# Altium integrated library Motorola Microcontroller 8-Bit.IntLib: 909 symbols (part 7 of 31)
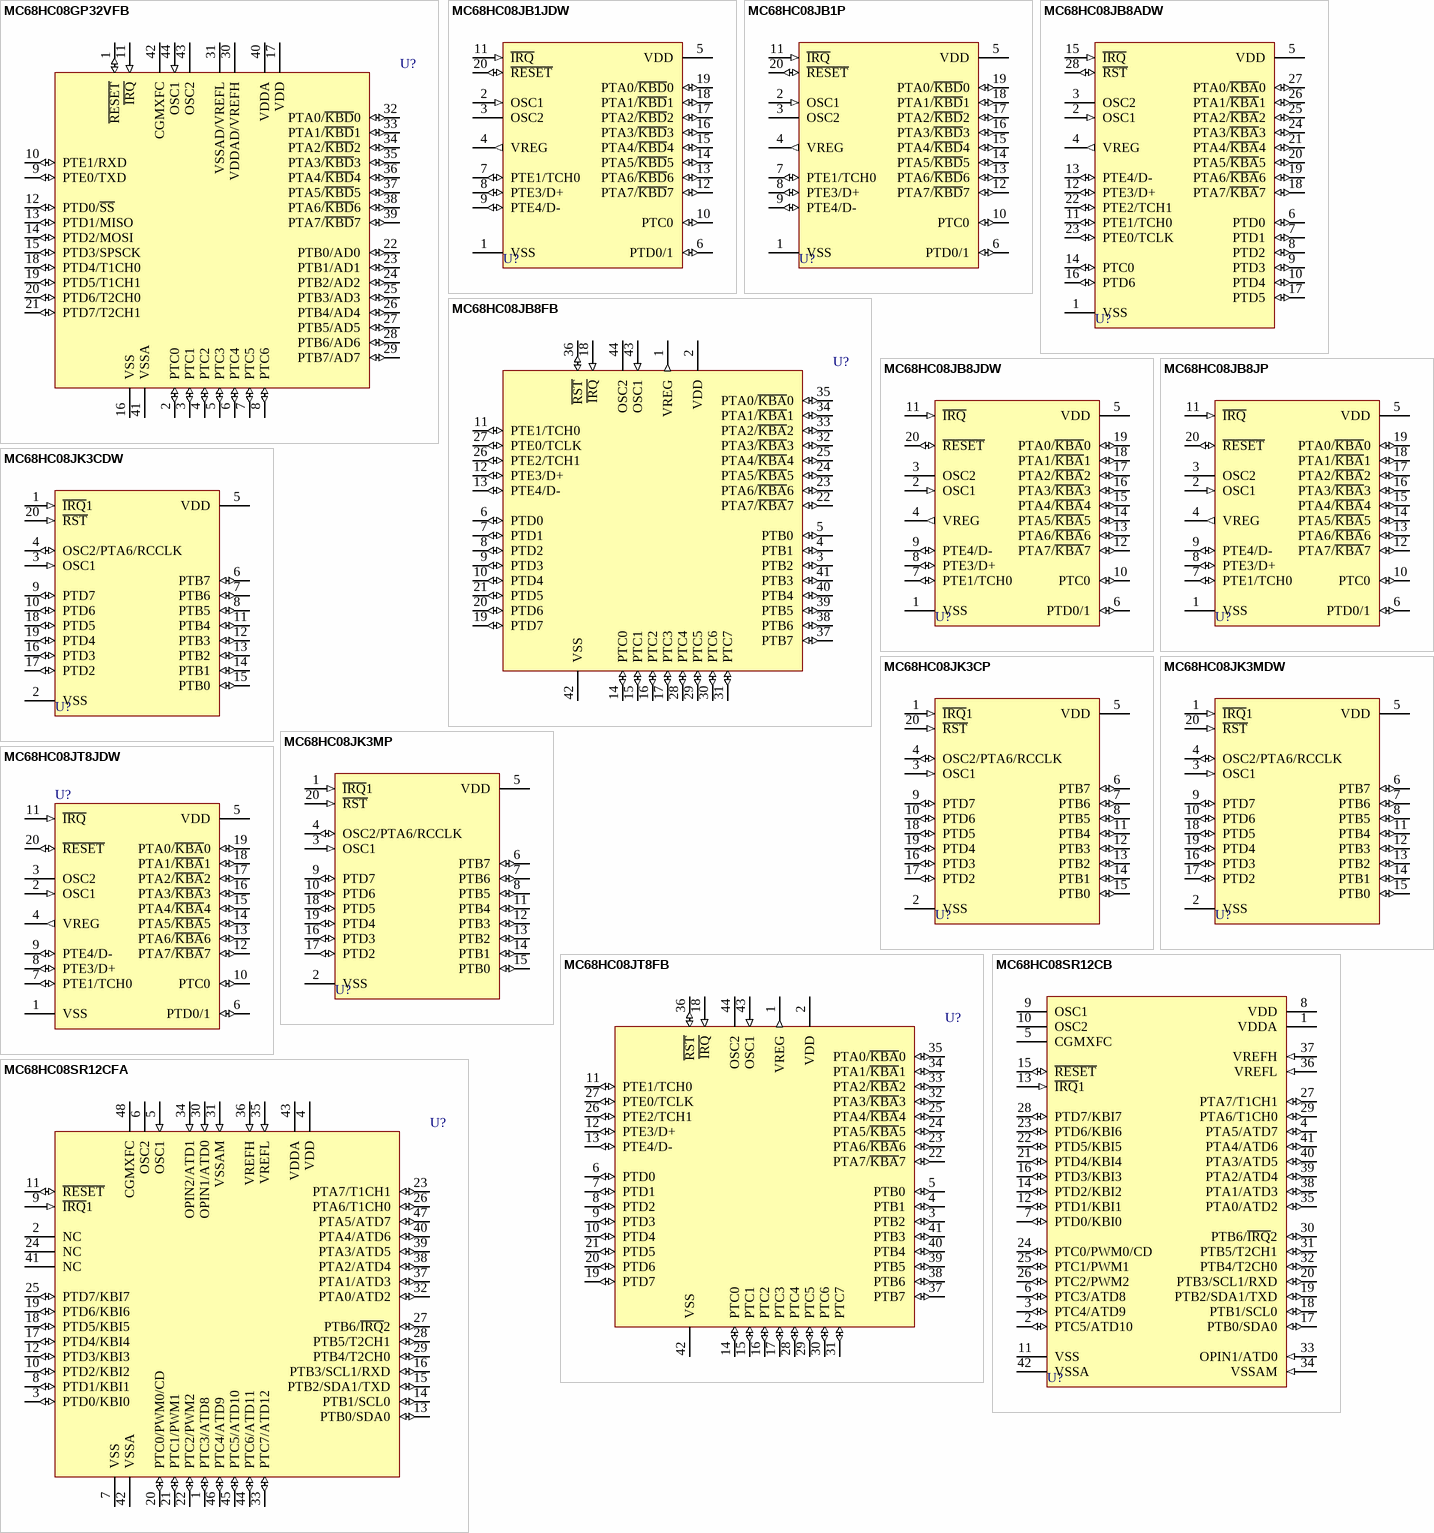
[diagram p119: symbols MC68HC08GP32VFB to MC68HC08SR12CFA]

## MC68HC08GP32VFB
designator U?
8-Bit Microcontroller; Note: Any unused inputs and I/O ports should be tied to an appropriate logic level (either VDD or VSS ). Although the I/O ports of the MC68HC908GP32 do not require termination, termination is recommended to reduce the possibility of static damage.; Published: 17-Jan-2003; LatestRevisionDate: 13-Apr-2006; LatestRevisionNote: IPC-7351 Footprint Added.; DatasheetVersion: Rev 6, 8/2002; PackageVersion: rev5, Apr-2002; PackageReference: 824A-01; Publisher: Altium Limited; PackageDescription: 44-Pin Quad Flat Pack 0.8 mm Pitch; Code_JEDEC: MS-022-AB; Code_IPC: QFP80P1320X1320-44; ComponentLink1Description: Manufacturer Link; ComponentLink1URL: http://www.freescale.com/; ComponentLink2Description: Datasheet; ComponentLink2URL: http://www.freescale.com/files/microcontrollers/doc/data_sheet/MC68HC908GP32.pdf
footprint 824A-01_N (QFP, 44-Leads, Body 10x10mm, Pitch 0.8mm, IPC Medium Density)
footprint 824A-01_L (QFP, 44-Leads, Body 10x10mm, Pitch 0.8mm, IPC High Density)
footprint 824A-01_M (QFP, 44-Leads, Body 10x10mm, Pitch 0.8mm, IPC Low Density)
3D model MC68HC08-824A-01 (44-Pin Quad Flat Pack 0.8 mm Pitch)
pins: 1 ~{RESET} (io), 2 PTC0 (io), 3 PTC1 (io), 4 PTC2 (io), 5 PTC3 (io), 6 PTC4 (io), 7 PTC5 (io), 8 PTC6 (io), 9 PTE0/TXD (io), 10 PTE1/RXD (io), 11 ~{IRQ} (in), 12 PTD0/~{SS} (io), 13 PTD1/MISO (io), 14 PTD2/MOSI (io), 15 PTD3/SPSCK (io), 16 VSS (power), 17 VDD (power), 18 PTD4/T1CH0 (io), 19 PTD5/T1CH1 (io), 20 PTD6/T2CH0 (io), 21 PTD7/T2CH1 (io), 22 PTB0/AD0 (io), 23 PTB1/AD1 (io), 24 PTB2/AD2 (io), 25 PTB3/AD3 (io), 26 PTB4/AD4 (io), 27 PTB5/AD5 (io), 28 PTB6/AD6 (io), 29 PTB7/AD7 (io), 30 VDDAD/VREFH (power), 31 VSSAD/VREFL (power), 32 PTA0/~{KBD}0 (io), 33 PTA1/~{KBD}1 (io), 34 PTA2/~{KBD}2 (io), 35 PTA3/~{KBD}3 (io), 36 PTA4/~{KBD}4 (io), 37 PTA5/~{KBD}5 (io), 38 PTA6/~{KBD}6 (io), 39 PTA7/~{KBD}7 (io), 40 VDDA (power), 41 VSSA (power), 42 CGMXFC, 43 OSC2, 44 OSC1 (in)

## MC68HC08JB1JDW
designator U?
8-Bit Microcontroller; Note: Any unused inputs and I/O ports should be tied to an appropriate logic level (either VDD or VSS ). Although the I/O ports of the MC68HC908JB16 do not require termination, termination is recommended to reduce the possibility of static damage.; Published: 17-Jan-2003; LatestRevisionDate: 13-Apr-2006; LatestRevisionNote: IPC-7351 Footprint Added.; DatasheetVersion: Rev 2, 3/2002; PackageVersion: rev4.0, 2001; PackageReference: 751D-05; Publisher: Altium Limited; PackageDescription: 20-Pin Plastic Small Outline Integrated Circuit 1.27 mm Pitch; ComponentLink1Description: Manufacturer Link; ComponentLink1URL: http://www.freescale.com/; ComponentLink2Description: Datasheet; ComponentLink2URL: http://www.freescale.com/files/microcontrollers/doc/data_sheet/MC68HC08JB1.pdf
footprint 751D-05_N (SOIC, 20-Leads, Body 12.8x7.5mm, Pitch 1.27mm, IPC Medium Density)
footprint 751D-05_L (SOIC, 20-Leads, Body 12.8x7.5mm, Pitch 1.27mm, IPC High Density)
footprint 751D-05_M (SOIC, 20-Leads, Body 12.8x7.5mm, Pitch 1.27mm, IPC Low Density)
3D model 751D-05 (20-Pin Plastic Small Outline Integrated Circuit 1.27 mm Pitch)
pins: 1 VSS (power), 2 OSC1 (in), 3 OSC2, 4 VREG (out), 5 VDD (power), 6 PTD0/1 (io), 7 PTE1/TCH0 (io), 8 PTE3/D+ (io), 9 PTE4/D- (io), 10 PTC0 (io), 11 ~{IRQ} (in), 12 PTA7/~{KBD}7 (io), 13 PTA6/~{KBD}6 (io), 14 PTA5/~{KBD}5 (io), 15 PTA4/~{KBD}4 (io), 16 PTA3/~{KBD}3 (io), 17 PTA2/~{KBD}2 (io), 18 PTA1/~{KBD}1 (io), 19 PTA0/~{KBD}0 (io), 20 ~{RESET} (io)

## MC68HC08JB1P
designator U?
8-Bit Microcontroller; Note: Any unused inputs and I/O ports should be tied to an appropriate logic level (either VDD or VSS ). Although the I/O ports of the MC68HC908JB16 do not require termination, termination is recommended to reduce the possibility of static damage.; Published: 17-Jan-2003; LatestRevisionDate: 06-Jun-2005; LatestRevisionNote: Stylized 3D Model Added.; DatasheetVersion: Rev 2, 3/2002; PackageReference: 738-03; Publisher: Altium Limited; PackageDescription: DIP; 20 Leads; Row Spacing 7.62 mm; Pitch 2.54 mm; Code_JEDEC: MS-001-AD; ComponentLink1Description: Manufacturer Link; ComponentLink1URL: http://www.freescale.com/; ComponentLink2Description: Datasheet; ComponentLink2URL: http://www.freescale.com/files/microcontrollers/doc/data_sheet/MC68HC08JB1.pdf
footprint 738-03 (DIP; 20 Leads; Row Spacing 7.62 mm; Pitch 2.54 mm)
3D model 738-03 (DIP; 20 Leads; Row Spacing 7.62 mm; Pitch 2.54 mm)
pins: 1 VSS (power), 2 OSC1 (in), 3 OSC2, 4 VREG (out), 5 VDD (power), 6 PTD0/1 (io), 7 PTE1/TCH0 (io), 8 PTE3/D+ (io), 9 PTE4/D- (io), 10 PTC0 (io), 11 ~{IRQ} (in), 12 PTA7/~{KBD}7 (io), 13 PTA6/~{KBD}6 (io), 14 PTA5/~{KBD}5 (io), 15 PTA4/~{KBD}4 (io), 16 PTA3/~{KBD}3 (io), 17 PTA2/~{KBD}2 (io), 18 PTA1/~{KBD}1 (io), 19 PTA0/~{KBD}0 (io), 20 ~{RESET} (io)

## MC68HC08JB8ADW
designator U?
8-Bit Microcontroller; Published: 17-Jan-2003; LatestRevisionDate: 13-Apr-2006; LatestRevisionNote: IPC-7351 Footprint Added.; DatasheetVersion: Rev 2, 2/2002; PackageReference: 751F-03; Publisher: Altium Limited; PackageDescription: 28-Pin Small Outline Integrated Circuit 1.27 mm Pitch; ComponentLink1Description: Manufacturer Link; ComponentLink1URL: http://www.freescale.com/; ComponentLink2Description: Datasheet; ComponentLink2URL: http://www.freescale.com/files/microcontrollers/doc/data_sheet/MC68HC908JB8.pdf
footprint 751F-03_N (SOIC, 28-Leads, Body 17.9x7.5mm, Pitch 1.27mm, IPC Medium Density)
footprint 751F-03_L (SOIC, 28-Leads, Body 17.9x7.5mm, Pitch 1.27mm, IPC High Density)
footprint 751F-03_M (SOIC, 28-Leads, Body 17.9x7.5mm, Pitch 1.27mm, IPC Low Density)
3D model 751F-03 (28-Pin Small Outline Integrated Circuit 1.27 mm Pitch)
pins: 1 VSS (power), 2 OSC1 (in), 3 OSC2, 4 VREG (out), 5 VDD (power), 6 PTD0 (io), 7 PTD1 (io), 8 PTD2 (io), 9 PTD3 (io), 10 PTD4 (io), 11 PTE1/TCH0 (io), 12 PTE3/D+ (io), 13 PTE4/D- (io), 14 PTC0 (io), 15 ~{IRQ} (in), 16 PTD6 (io), 17 PTD5 (io), 18 PTA7/~{KBA}7 (io), 19 PTA6/~{KBA}6 (io), 20 PTA5/~{KBA}5 (io), 21 PTA4/~{KBA}4 (io), 22 PTE2/TCH1 (io), 23 PTE0/TCLK (io), 24 PTA3/~{KBA}3 (io), 25 PTA2/~{KBA}2 (io), 26 PTA1/~{KBA}1 (io), 27 PTA0/~{KBA}0 (io), 28 ~{RST} (io)

## MC68HC08JB8FB
designator U?
8-Bit Microcontroller; Published: 17-Jan-2003; LatestRevisionDate: 13-Apr-2006; LatestRevisionNote: IPC-7351 Footprint Added.; DatasheetVersion: Rev 2, 2/2002; PackageVersion: rev5, Apr-2002; PackageReference: 824A-01; Publisher: Altium Limited; PackageDescription: 44-Pin Quad Flat Pack 0.8 mm Pitch; Code_JEDEC: MS-022-AB; Code_IPC: QFP80P1320X1320-44; ComponentLink1Description: Manufacturer Link; ComponentLink1URL: http://www.freescale.com/; ComponentLink2Description: Datasheet; ComponentLink2URL: http://www.freescale.com/files/microcontrollers/doc/data_sheet/MC68HC908JB8.pdf
footprint 824A-01_N (QFP, 44-Leads, Body 10x10mm, Pitch 0.8mm, IPC Medium Density)
footprint 824A-01_L (QFP, 44-Leads, Body 10x10mm, Pitch 0.8mm, IPC High Density)
footprint 824A-01_M (QFP, 44-Leads, Body 10x10mm, Pitch 0.8mm, IPC Low Density)
3D model MC68HC08-824A-01 (44-Pin Quad Flat Pack 0.8 mm Pitch)
pins: 1 VREG (out), 2 VDD (power), 3 PTB2 (io), 4 PTB1 (io), 5 PTB0 (io), 6 PTD0 (io), 7 PTD1 (io), 8 PTD2 (io), 9 PTD3 (io), 10 PTD4 (io), 11 PTE1/TCH0 (io), 12 PTE3/D+ (io), 13 PTE4/D- (io), 14 PTC0 (io), 15 PTC1 (io), 16 PTC2 (io), 17 PTC3 (io), 18 ~{IRQ} (in), 19 PTD7 (io), 20 PTD6 (io), 21 PTD5 (io), 22 PTA7/~{KBA}7 (io), 23 PTA6/~{KBA}6 (io), 24 PTA5/~{KBA}5 (io), 25 PTA4/~{KBA}4 (io), 26 PTE2/TCH1 (io), 27 PTE0/TCLK (io), 28 PTC4 (io), 29 PTC5 (io), 30 PTC6 (io), 31 PTC7 (io), 32 PTA3/~{KBA}3 (io), 33 PTA2/~{KBA}2 (io), 34 PTA1/~{KBA}1 (io), 35 PTA0/~{KBA}0 (io), 36 ~{RST} (io), 37 PTB7 (io), 38 PTB6 (io), 39 PTB5 (io), 40 PTB4 (io), 41 PTB3 (io), 42 VSS (power), 43 OSC1 (in), 44 OSC2

## MC68HC08JB8JDW
designator U?
8-Bit Microcontroller; Published: 17-Jan-2003; LatestRevisionDate: 13-Apr-2006; LatestRevisionNote: IPC-7351 Footprint Added.; DatasheetVersion: Rev 2, 2/2002; PackageVersion: rev4.0, 2001; PackageReference: 751D-05; Publisher: Altium Limited; PackageDescription: 20-Pin Plastic Small Outline Integrated Circuit 1.27 mm Pitch; ComponentLink1Description: Manufacturer Link; ComponentLink1URL: http://www.freescale.com/; ComponentLink2Description: Datasheet; ComponentLink2URL: http://www.freescale.com/files/microcontrollers/doc/data_sheet/MC68HC908JB8.pdf
footprint 751D-05_N (SOIC, 20-Leads, Body 12.8x7.5mm, Pitch 1.27mm, IPC Medium Density)
footprint 751D-05_L (SOIC, 20-Leads, Body 12.8x7.5mm, Pitch 1.27mm, IPC High Density)
footprint 751D-05_M (SOIC, 20-Leads, Body 12.8x7.5mm, Pitch 1.27mm, IPC Low Density)
3D model 751D-05 (20-Pin Plastic Small Outline Integrated Circuit 1.27 mm Pitch)
pins: 1 VSS (power), 2 OSC1 (in), 3 OSC2, 4 VREG (out), 5 VDD (power), 6 PTD0/1 (io), 7 PTE1/TCH0 (io), 8 PTE3/D+ (io), 9 PTE4/D- (io), 10 PTC0 (io), 11 ~{IRQ} (in), 12 PTA7/~{KBA}7 (io), 13 PTA6/~{KBA}6 (io), 14 PTA5/~{KBA}5 (io), 15 PTA4/~{KBA}4 (io), 16 PTA3/~{KBA}3 (io), 17 PTA2/~{KBA}2 (io), 18 PTA1/~{KBA}1 (io), 19 PTA0/~{KBA}0 (io), 20 ~{RESET} (io)

## MC68HC08JB8JP
designator U?
8-Bit Microcontroller; Published: 17-Jan-2003; LatestRevisionDate: 06-Jun-2005; LatestRevisionNote: Stylized 3D Model Added.; DatasheetVersion: Rev 2, 2/2002; PackageReference: 738-03; Publisher: Altium Limited; PackageDescription: DIP; 20 Leads; Row Spacing 7.62 mm; Pitch 2.54 mm; Code_JEDEC: MS-001-AD; ComponentLink1Description: Manufacturer Link; ComponentLink1URL: http://www.freescale.com/; ComponentLink2Description: Datasheet; ComponentLink2URL: http://www.freescale.com/files/microcontrollers/doc/data_sheet/MC68HC908JB8.pdf
footprint 738-03 (DIP; 20 Leads; Row Spacing 7.62 mm; Pitch 2.54 mm)
3D model 738-03 (DIP; 20 Leads; Row Spacing 7.62 mm; Pitch 2.54 mm)
pins: 1 VSS (power), 2 OSC1 (in), 3 OSC2, 4 VREG (out), 5 VDD (power), 6 PTD0/1 (io), 7 PTE1/TCH0 (io), 8 PTE3/D+ (io), 9 PTE4/D- (io), 10 PTC0 (io), 11 ~{IRQ} (in), 12 PTA7/~{KBA}7 (io), 13 PTA6/~{KBA}6 (io), 14 PTA5/~{KBA}5 (io), 15 PTA4/~{KBA}4 (io), 16 PTA3/~{KBA}3 (io), 17 PTA2/~{KBA}2 (io), 18 PTA1/~{KBA}1 (io), 19 PTA0/~{KBA}0 (io), 20 ~{RESET} (io)

## MC68HC08JK3CDW
designator U?
8-Bit Microcontroller; Note: Connect any unused I/O pins to an appropriate logic level (either VDD or VSS ). Although the I/O ports do not require termination for proper operation, termination reduces excess current consumption and the possibility of electrostatic damage.; Published: 17-Jan-2003; LatestRevisionDate: 13-Apr-2006; LatestRevisionNote: IPC-7351 Footprint Added.; DatasheetVersion: Rev 4, 2000; PackageVersion: rev4.0, 2001; PackageReference: 751D-05; Publisher: Altium Limited; PackageDescription: 20-Pin Plastic Small Outline Integrated Circuit 1.27 mm Pitch; ComponentLink1Description: Manufacturer Link; ComponentLink1URL: http://www.freescale.com/
footprint 751D-05_N (SOIC, 20-Leads, Body 12.8x7.5mm, Pitch 1.27mm, IPC Medium Density)
footprint 751D-05_L (SOIC, 20-Leads, Body 12.8x7.5mm, Pitch 1.27mm, IPC High Density)
footprint 751D-05_M (SOIC, 20-Leads, Body 12.8x7.5mm, Pitch 1.27mm, IPC Low Density)
3D model 751D-05 (20-Pin Plastic Small Outline Integrated Circuit 1.27 mm Pitch)
pins: 1 ~{IRQ}1 (in), 2 VSS (power), 3 OSC1 (in), 4 OSC2/PTA6/RCCLK (io), 5 VDD (power), 6 PTB7 (io), 7 PTB6 (io), 8 PTB5 (io), 9 PTD7 (io), 10 PTD6 (io), 11 PTB4 (io), 12 PTB3 (io), 13 PTB2 (io), 14 PTB1 (io), 15 PTB0 (io), 16 PTD3 (io), 17 PTD2 (io), 18 PTD5 (io), 19 PTD4 (io), 20 ~{RST} (in)

## MC68HC08JK3CP
designator U?
8-Bit Microcontroller; Note: Connect any unused I/O pins to an appropriate logic level (either VDD or VSS ). Although the I/O ports do not require termination for proper operation, termination reduces excess current consumption and the possibility of electrostatic damage.; Published: 17-Jan-2003; LatestRevisionDate: 06-Jun-2005; LatestRevisionNote: Stylized 3D Model Added.; DatasheetVersion: Rev 4, 2000; PackageReference: 738-03; Publisher: Altium Limited; PackageDescription: DIP; 20 Leads; Row Spacing 7.62 mm; Pitch 2.54 mm; Code_JEDEC: MS-001-AD; ComponentLink1Description: Manufacturer Link; ComponentLink1URL: http://www.freescale.com/
footprint 738-03 (DIP; 20 Leads; Row Spacing 7.62 mm; Pitch 2.54 mm)
3D model 738-03 (DIP; 20 Leads; Row Spacing 7.62 mm; Pitch 2.54 mm)
pins: 1 ~{IRQ}1 (in), 2 VSS (power), 3 OSC1 (in), 4 OSC2/PTA6/RCCLK (io), 5 VDD (power), 6 PTB7 (io), 7 PTB6 (io), 8 PTB5 (io), 9 PTD7 (io), 10 PTD6 (io), 11 PTB4 (io), 12 PTB3 (io), 13 PTB2 (io), 14 PTB1 (io), 15 PTB0 (io), 16 PTD3 (io), 17 PTD2 (io), 18 PTD5 (io), 19 PTD4 (io), 20 ~{RST} (in)

## MC68HC08JK3MDW
designator U?
8-Bit Microcontroller; Note: Connect any unused I/O pins to an appropriate logic level (either VDD or VSS ). Although the I/O ports do not require termination for proper operation, termination reduces excess current consumption and the possibility of electrostatic damage.; Published: 17-Jan-2003; LatestRevisionDate: 13-Apr-2006; LatestRevisionNote: IPC-7351 Footprint Added.; DatasheetVersion: Rev 4, 2000; PackageVersion: rev4.0, 2001; PackageReference: 751D-05; Publisher: Altium Limited; PackageDescription: 20-Pin Plastic Small Outline Integrated Circuit 1.27 mm Pitch; ComponentLink1Description: Manufacturer Link; ComponentLink1URL: http://www.freescale.com/
footprint 751D-05_N (SOIC, 20-Leads, Body 12.8x7.5mm, Pitch 1.27mm, IPC Medium Density)
footprint 751D-05_L (SOIC, 20-Leads, Body 12.8x7.5mm, Pitch 1.27mm, IPC High Density)
footprint 751D-05_M (SOIC, 20-Leads, Body 12.8x7.5mm, Pitch 1.27mm, IPC Low Density)
3D model 751D-05 (20-Pin Plastic Small Outline Integrated Circuit 1.27 mm Pitch)
pins: 1 ~{IRQ}1 (in), 2 VSS (power), 3 OSC1 (in), 4 OSC2/PTA6/RCCLK (io), 5 VDD (power), 6 PTB7 (io), 7 PTB6 (io), 8 PTB5 (io), 9 PTD7 (io), 10 PTD6 (io), 11 PTB4 (io), 12 PTB3 (io), 13 PTB2 (io), 14 PTB1 (io), 15 PTB0 (io), 16 PTD3 (io), 17 PTD2 (io), 18 PTD5 (io), 19 PTD4 (io), 20 ~{RST} (in)

## MC68HC08JK3MP
designator U?
8-Bit Microcontroller; Note: Connect any unused I/O pins to an appropriate logic level (either VDD or VSS ). Although the I/O ports do not require termination for proper operation, termination reduces excess current consumption and the possibility of electrostatic damage.; Published: 17-Jan-2003; LatestRevisionDate: 06-Jun-2005; LatestRevisionNote: Stylized 3D Model Added.; DatasheetVersion: Rev 4, 2000; PackageReference: 738-03; Publisher: Altium Limited; PackageDescription: DIP; 20 Leads; Row Spacing 7.62 mm; Pitch 2.54 mm; Code_JEDEC: MS-001-AD; ComponentLink1Description: Manufacturer Link; ComponentLink1URL: http://www.freescale.com/
footprint 738-03 (DIP; 20 Leads; Row Spacing 7.62 mm; Pitch 2.54 mm)
3D model 738-03 (DIP; 20 Leads; Row Spacing 7.62 mm; Pitch 2.54 mm)
pins: 1 ~{IRQ}1 (in), 2 VSS (power), 3 OSC1 (in), 4 OSC2/PTA6/RCCLK (io), 5 VDD (power), 6 PTB7 (io), 7 PTB6 (io), 8 PTB5 (io), 9 PTD7 (io), 10 PTD6 (io), 11 PTB4 (io), 12 PTB3 (io), 13 PTB2 (io), 14 PTB1 (io), 15 PTB0 (io), 16 PTD3 (io), 17 PTD2 (io), 18 PTD5 (io), 19 PTD4 (io), 20 ~{RST} (in)

## MC68HC08JT8FB
designator U?
8-Bit Microcontroller; Published: 17-Jan-2003; LatestRevisionDate: 13-Apr-2006; LatestRevisionNote: IPC-7351 Footprint Added.; DatasheetVersion: Rev 2, 2/2002; PackageVersion: rev5, Apr-2002; PackageReference: 824A-01; Publisher: Altium Limited; PackageDescription: 44-Pin Quad Flat Pack 0.8 mm Pitch; Code_JEDEC: MS-022-AB; Code_IPC: QFP80P1320X1320-44; ComponentLink1Description: Manufacturer Link; ComponentLink1URL: http://www.freescale.com/; ComponentLink2Description: Datasheet; ComponentLink2URL: http://www.freescale.com/files/microcontrollers/doc/data_sheet/MC68HC908JB8.pdf
footprint 824A-01_N (QFP, 44-Leads, Body 10x10mm, Pitch 0.8mm, IPC Medium Density)
footprint 824A-01_L (QFP, 44-Leads, Body 10x10mm, Pitch 0.8mm, IPC High Density)
footprint 824A-01_M (QFP, 44-Leads, Body 10x10mm, Pitch 0.8mm, IPC Low Density)
3D model MC68HC08-824A-01 (44-Pin Quad Flat Pack 0.8 mm Pitch)
pins: 1 VREG (out), 2 VDD (power), 3 PTB2 (io), 4 PTB1 (io), 5 PTB0 (io), 6 PTD0 (io), 7 PTD1 (io), 8 PTD2 (io), 9 PTD3 (io), 10 PTD4 (io), 11 PTE1/TCH0 (io), 12 PTE3/D+ (io), 13 PTE4/D- (io), 14 PTC0 (io), 15 PTC1 (io), 16 PTC2 (io), 17 PTC3 (io), 18 ~{IRQ} (in), 19 PTD7 (io), 20 PTD6 (io), 21 PTD5 (io), 22 PTA7/~{KBA}7 (io), 23 PTA6/~{KBA}6 (io), 24 PTA5/~{KBA}5 (io), 25 PTA4/~{KBA}4 (io), 26 PTE2/TCH1 (io), 27 PTE0/TCLK (io), 28 PTC4 (io), 29 PTC5 (io), 30 PTC6 (io), 31 PTC7 (io), 32 PTA3/~{KBA}3 (io), 33 PTA2/~{KBA}2 (io), 34 PTA1/~{KBA}1 (io), 35 PTA0/~{KBA}0 (io), 36 ~{RST} (io), 37 PTB7 (io), 38 PTB6 (io), 39 PTB5 (io), 40 PTB4 (io), 41 PTB3 (io), 42 VSS (power), 43 OSC1 (in), 44 OSC2

## MC68HC08JT8JDW
designator U?
8-Bit Microcontroller; Published: 17-Jan-2003; LatestRevisionDate: 13-Apr-2006; LatestRevisionNote: IPC-7351 Footprint Added.; DatasheetVersion: Rev 2, 2/2002; PackageVersion: rev4.0, 2001; PackageReference: 751D-05; Publisher: Altium Limited; PackageDescription: 20-Pin Plastic Small Outline Integrated Circuit 1.27 mm Pitch; ComponentLink1Description: Manufacturer Link; ComponentLink1URL: http://www.freescale.com/; ComponentLink2Description: Datasheet; ComponentLink2URL: http://www.freescale.com/files/microcontrollers/doc/data_sheet/MC68HC908JB8.pdf
footprint 751D-05_N (SOIC, 20-Leads, Body 12.8x7.5mm, Pitch 1.27mm, IPC Medium Density)
footprint 751D-05_L (SOIC, 20-Leads, Body 12.8x7.5mm, Pitch 1.27mm, IPC High Density)
footprint 751D-05_M (SOIC, 20-Leads, Body 12.8x7.5mm, Pitch 1.27mm, IPC Low Density)
3D model 751D-05 (20-Pin Plastic Small Outline Integrated Circuit 1.27 mm Pitch)
pins: 1 VSS (power), 2 OSC1 (in), 3 OSC2, 4 VREG (out), 5 VDD (power), 6 PTD0/1 (io), 7 PTE1/TCH0 (io), 8 PTE3/D+ (io), 9 PTE4/D- (io), 10 PTC0 (io), 11 ~{IRQ} (in), 12 PTA7/~{KBA}7 (io), 13 PTA6/~{KBA}6 (io), 14 PTA5/~{KBA}5 (io), 15 PTA4/~{KBA}4 (io), 16 PTA3/~{KBA}3 (io), 17 PTA2/~{KBA}2 (io), 18 PTA1/~{KBA}1 (io), 19 PTA0/~{KBA}0 (io), 20 ~{RESET} (io)

## MC68HC08SR12CB
designator U?
8-Bit Microcontroller; Published: 17-Jan-2003; LatestRevisionDate: 06-Jun-2005; LatestRevisionNote: Stylized 3D Model Added.; DatasheetVersion: Rev 4, 2/2002; PackageVersion: rev5, Apr-2002; PackageReference: 858-01; Publisher: Altium Limited; PackageDescription: DIP, Plastic; 42 Leads; Row Spacing 15.24 mm; Pitch 1.778 mm; ComponentLink1Description: Manufacturer Link; ComponentLink1URL: http://www.freescale.com/
footprint 858-01 (DIP, Plastic; 42 Leads; Row Spacing 15.24 mm; Pitch 1.778 mm)
3D model 858-01 (DIP, Plastic; 42 Leads; Row Spacing 15.24 mm; Pitch 1.778 mm)
pins: 1 VDDA (power), 2 PTC5/ATD10 (io), 3 PTC4/ATD9 (io), 4 PTA5/ATD7 (io), 5 CGMXFC, 6 PTC3/ATD8 (io), 7 PTD0/KBI0 (io), 8 VDD (power), 9 OSC1, 10 OSC2, 11 VSS (power), 12 PTD1/KBI1 (io), 13 ~{IRQ}1 (in), 14 PTD2/KBI2 (io), 15 ~{RESET} (io), 16 PTD3/KBI3 (io), 17 PTB0/SDA0 (io), 18 PTB1/SCL0 (io), 19 PTB2/SDA1/TXD (io), 20 PTB3/SCL1/RXD (io), 21 PTD4/KBI4 (io), 22 PTD5/KBI5 (io), 23 PTD6/KBI6 (io), 24 PTC0/PWM0/CD (io), 25 PTC1/PWM1 (io), 26 PTC2/PWM2 (io), 27 PTA7/T1CH1 (io), 28 PTD7/KBI7 (io), 29 PTA6/T1CH0 (io), 30 PTB6/~{IRQ}2 (io), 31 PTB5/T2CH1 (io), 32 PTB4/T2CH0 (io), 33 OPIN1/ATD0 (in), 34 VSSAM (in), 35 PTA0/ATD2 (io), 36 VREFL (in), 37 VREFH (in), 38 PTA1/ATD3 (io), 39 PTA2/ATD4 (io), 40 PTA3/ATD5 (io), 41 PTA4/ATD6 (io), 42 VSSA (power)

## MC68HC08SR12CFA
designator U?
8-Bit Microcontroller; Published: 17-Jan-2003; LatestRevisionDate: 13-Apr-2006; LatestRevisionNote: IPC-7351 Footprint Added.; DatasheetVersion: Rev 4, 2/2002; PackageVersion: rev4, Feb-2002; PackageReference: 932-02; Publisher: Altium Limited; PackageDescription: 48-Pin Thin Quad Flat Pack 0.5 mm Pitch; ComponentLink1Description: Manufacturer Link; ComponentLink1URL: http://www.freescale.com/
footprint 932-02_N (Thin QFP, 48-Leads, Body 7x7mm, Pitch 0.5mm, IPC Medium Density)
footprint 932-02_L (Thin QFP, 48-Leads, Body 7x7mm, Pitch 0.5mm, IPC High Density)
footprint 932-02_M (Thin QFP, 48-Leads, Body 7x7mm, Pitch 0.5mm, IPC Low Density)
3D model MC68HC08-932-02 (48-Pin Thin Quad Flat Pack 0.5 mm Pitch)
pins: 1 PTC3/ATD8 (io), 2 NC, 3 PTD0/KBI0 (io), 4 VDD (power), 5 OSC1 (in), 6 OSC2, 7 VSS (power), 8 PTD1/KBI1 (io), 9 ~{IRQ}1 (in), 10 PTD2/KBI2 (io), 11 ~{RESET} (io), 12 PTD3/KBI3 (io), 13 PTB0/SDA0 (io), 14 PTB1/SCL0 (io), 15 PTB2/SDA1/TXD (io), 16 PTB3/SCL1/RXD (io), 17 PTD4/KBI4 (io), 18 PTD5/KBI5 (io), 19 PTD6/KBI6 (io), 20 PTC0/PWM0/CD (io), 21 PTC1/PWM1 (io), 22 PTC2/PWM2 (io), 23 PTA7/T1CH1 (io), 24 NC, 25 PTD7/KBI7 (io), 26 PTA6/T1CH0 (io), 27 PTB6/~{IRQ}2 (io), 28 PTB5/T2CH1 (io), 29 PTB4/T2CH0 (io), 30 OPIN1/ATD0 (in), 31 VSSAM (in), 32 PTA0/ATD2 (io), 33 PTC7/ATD12 (io), 34 OPIN2/ATD1 (in), 35 VREFL (in), 36 VREFH (in), 37 PTA1/ATD3 (io), 38 PTA2/ATD4 (io), 39 PTA3/ATD5 (io), 40 PTA4/ATD6 (io), 41 NC, 42 VSSA (power), 43 VDDA (power), 44 PTC6/ATD11 (io), 45 PTC5/ATD10 (io), 46 PTC4/ATD9 (io), 47 PTA5/ATD7 (io), 48 CGMXFC

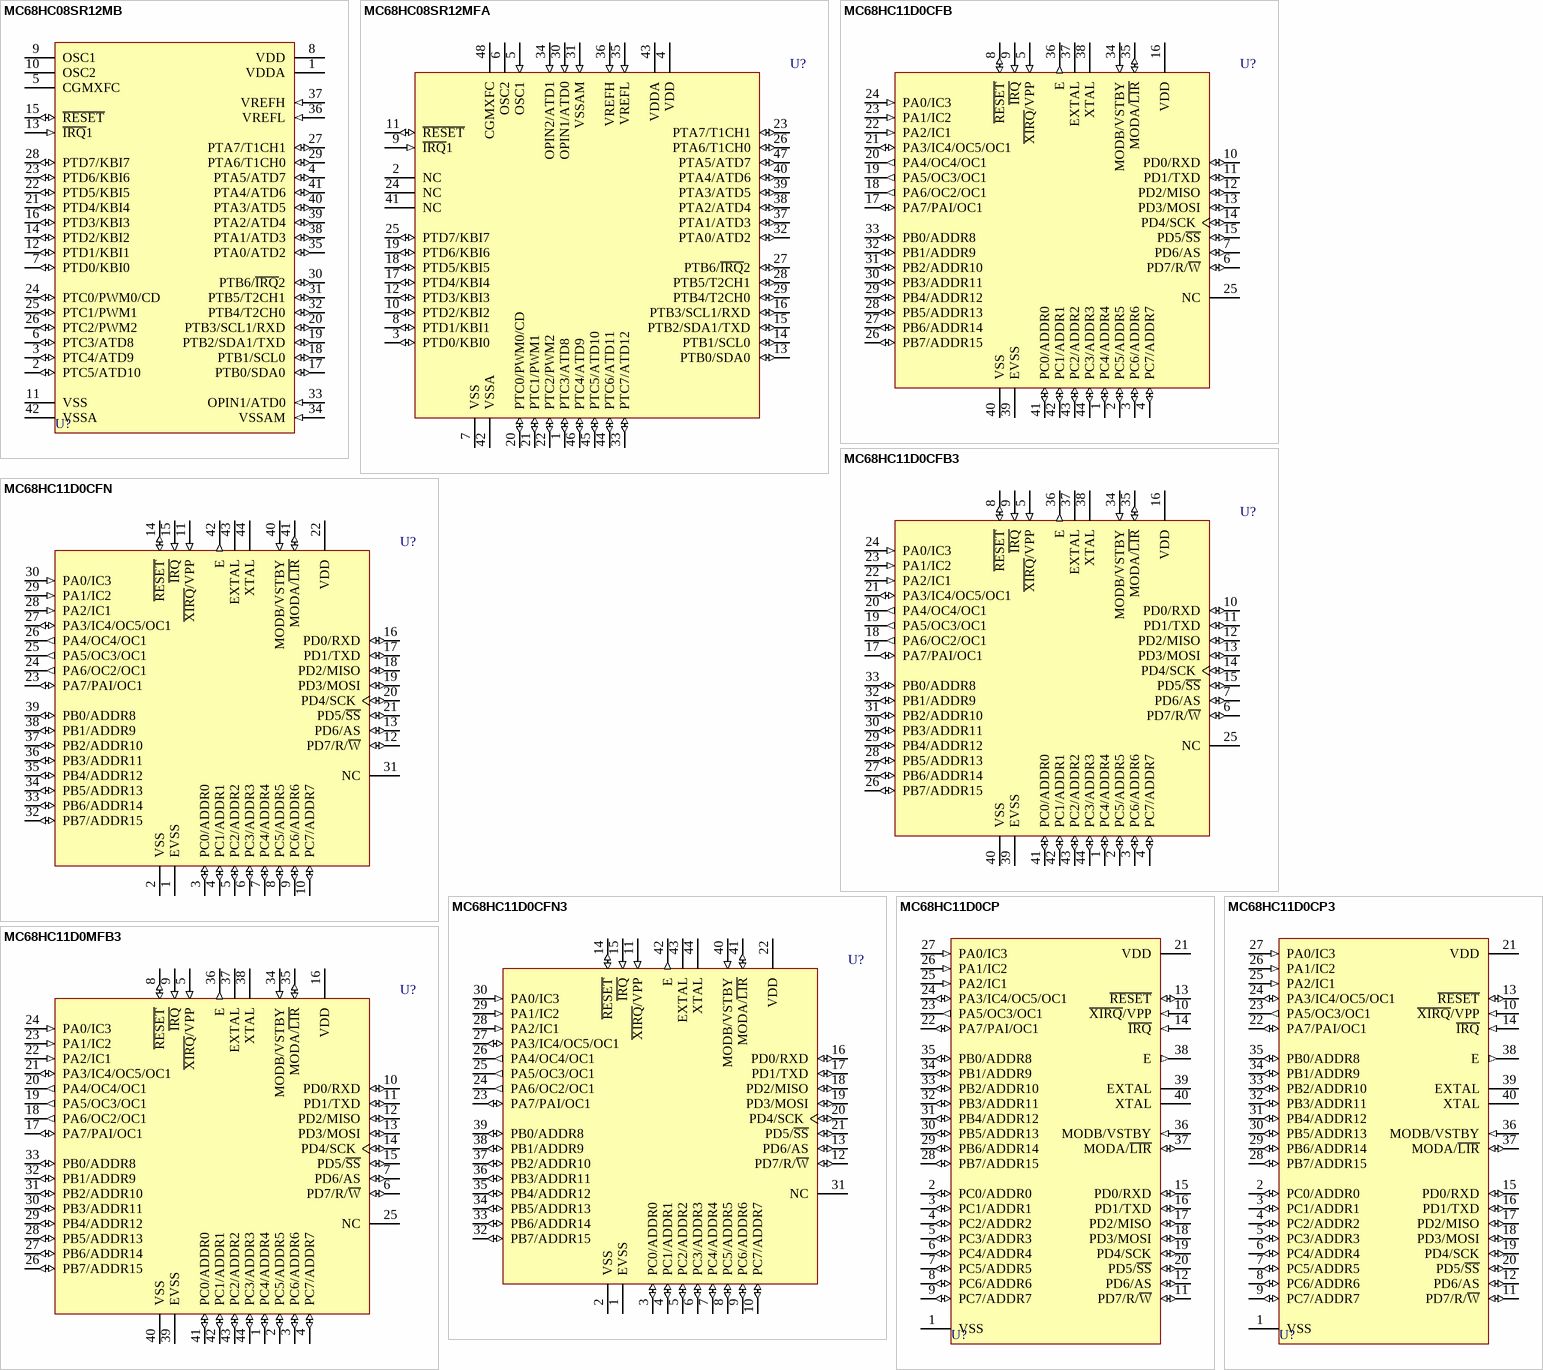
[diagram p18: symbols MC68HC08SR12MB to MC68HC11D0MFB3]

## MC68HC08SR12MB
designator U?
8-Bit Microcontroller; Published: 17-Jan-2003; LatestRevisionDate: 06-Jun-2005; LatestRevisionNote: Stylized 3D Model Added.; DatasheetVersion: Rev 4, 2/2002; PackageVersion: rev5, Apr-2002; PackageReference: 858-01; Publisher: Altium Limited; PackageDescription: DIP, Plastic; 42 Leads; Row Spacing 15.24 mm; Pitch 1.778 mm; ComponentLink1Description: Manufacturer Link; ComponentLink1URL: http://www.freescale.com/
footprint 858-01 (DIP, Plastic; 42 Leads; Row Spacing 15.24 mm; Pitch 1.778 mm)
3D model 858-01 (DIP, Plastic; 42 Leads; Row Spacing 15.24 mm; Pitch 1.778 mm)
pins: 1 VDDA (power), 2 PTC5/ATD10 (io), 3 PTC4/ATD9 (io), 4 PTA5/ATD7 (io), 5 CGMXFC, 6 PTC3/ATD8 (io), 7 PTD0/KBI0 (io), 8 VDD (power), 9 OSC1, 10 OSC2, 11 VSS (power), 12 PTD1/KBI1 (io), 13 ~{IRQ}1 (in), 14 PTD2/KBI2 (io), 15 ~{RESET} (io), 16 PTD3/KBI3 (io), 17 PTB0/SDA0 (io), 18 PTB1/SCL0 (io), 19 PTB2/SDA1/TXD (io), 20 PTB3/SCL1/RXD (io), 21 PTD4/KBI4 (io), 22 PTD5/KBI5 (io), 23 PTD6/KBI6 (io), 24 PTC0/PWM0/CD (io), 25 PTC1/PWM1 (io), 26 PTC2/PWM2 (io), 27 PTA7/T1CH1 (io), 28 PTD7/KBI7 (io), 29 PTA6/T1CH0 (io), 30 PTB6/~{IRQ}2 (io), 31 PTB5/T2CH1 (io), 32 PTB4/T2CH0 (io), 33 OPIN1/ATD0 (in), 34 VSSAM (in), 35 PTA0/ATD2 (io), 36 VREFL (in), 37 VREFH (in), 38 PTA1/ATD3 (io), 39 PTA2/ATD4 (io), 40 PTA3/ATD5 (io), 41 PTA4/ATD6 (io), 42 VSSA (power)

## MC68HC08SR12MFA
designator U?
8-Bit Microcontroller; Published: 17-Jan-2003; LatestRevisionDate: 13-Apr-2006; LatestRevisionNote: IPC-7351 Footprint Added.; DatasheetVersion: Rev 4, 2/2002; PackageVersion: rev4, Feb-2002; PackageReference: 932-02; Publisher: Altium Limited; PackageDescription: 48-Pin Thin Quad Flat Pack 0.5 mm Pitch; ComponentLink1Description: Manufacturer Link; ComponentLink1URL: http://www.freescale.com/
footprint 932-02_N (Thin QFP, 48-Leads, Body 7x7mm, Pitch 0.5mm, IPC Medium Density)
footprint 932-02_L (Thin QFP, 48-Leads, Body 7x7mm, Pitch 0.5mm, IPC High Density)
footprint 932-02_M (Thin QFP, 48-Leads, Body 7x7mm, Pitch 0.5mm, IPC Low Density)
3D model MC68HC08-932-02 (48-Pin Thin Quad Flat Pack 0.5 mm Pitch)
pins: 1 PTC3/ATD8 (io), 2 NC, 3 PTD0/KBI0 (io), 4 VDD (power), 5 OSC1 (in), 6 OSC2, 7 VSS (power), 8 PTD1/KBI1 (io), 9 ~{IRQ}1 (in), 10 PTD2/KBI2 (io), 11 ~{RESET} (io), 12 PTD3/KBI3 (io), 13 PTB0/SDA0 (io), 14 PTB1/SCL0 (io), 15 PTB2/SDA1/TXD (io), 16 PTB3/SCL1/RXD (io), 17 PTD4/KBI4 (io), 18 PTD5/KBI5 (io), 19 PTD6/KBI6 (io), 20 PTC0/PWM0/CD (io), 21 PTC1/PWM1 (io), 22 PTC2/PWM2 (io), 23 PTA7/T1CH1 (io), 24 NC, 25 PTD7/KBI7 (io), 26 PTA6/T1CH0 (io), 27 PTB6/~{IRQ}2 (io), 28 PTB5/T2CH1 (io), 29 PTB4/T2CH0 (io), 30 OPIN1/ATD0 (in), 31 VSSAM (in), 32 PTA0/ATD2 (io), 33 PTC7/ATD12 (io), 34 OPIN2/ATD1 (in), 35 VREFL (in), 36 VREFH (in), 37 PTA1/ATD3 (io), 38 PTA2/ATD4 (io), 39 PTA3/ATD5 (io), 40 PTA4/ATD6 (io), 41 NC, 42 VSSA (power), 43 VDDA (power), 44 PTC6/ATD11 (io), 45 PTC5/ATD10 (io), 46 PTC4/ATD9 (io), 47 PTA5/ATD7 (io), 48 CGMXFC

## MC68HC11D0CFB
designator U?
8-Bit Microcontroller; Published: 17-Jan-2003; LatestRevisionDate: 13-Apr-2006; LatestRevisionNote: IPC-7351 Footprint Added.; DatasheetVersion: 10-Jan-1995; PackageVersion: rev5, Apr-2002; PackageReference: 824A-01; Publisher: Altium Limited; PackageDescription: 44-Pin Quad Flat Pack 0.8 mm Pitch; Code_JEDEC: MS-022-AB; Code_IPC: QFP80P1320X1320-44; ComponentLink1Description: Manufacturer Link; ComponentLink1URL: http://www.freescale.com/; ComponentLink2Description: Datasheet; ComponentLink2URL: http://www.freescale.com/files/microcontrollers/doc/data_sheet/MC68HC11D3.pdf
footprint 824A-01_N (QFP, 44-Leads, Body 10x10mm, Pitch 0.8mm, IPC Medium Density)
footprint 824A-01_L (QFP, 44-Leads, Body 10x10mm, Pitch 0.8mm, IPC High Density)
footprint 824A-01_M (QFP, 44-Leads, Body 10x10mm, Pitch 0.8mm, IPC Low Density)
3D model MC68HC11-824A-01 (44-Pin Quad Flat Pack 0.8 mm Pitch)
pins: 1 PC4/ADDR4 (io), 2 PC5/ADDR5 (io), 3 PC6/ADDR6 (io), 4 PC7/ADDR7 (io), 5 ~{XIRQ}/VPP (in), 6 PD7/R/~{W} (io), 7 PD6/AS (io), 8 ~{RESET} (io), 9 ~{IRQ} (in), 10 PD0/RXD (io), 11 PD1/TXD (io), 12 PD2/MISO (io), 13 PD3/MOSI (io), 14 PD4/SCK (io), 15 PD5/~{SS} (io), 16 VDD (power), 17 PA7/PAI/OC1 (io), 18 PA6/OC2/OC1 (out), 19 PA5/OC3/OC1 (out), 20 PA4/OC4/OC1 (out), 21 PA3/IC4/OC5/OC1 (io), 22 PA2/IC1 (in), 23 PA1/IC2 (in), 24 PA0/IC3 (in), 25 NC, 26 PB7/ADDR15 (io), 27 PB6/ADDR14 (io), 28 PB5/ADDR13 (io), 29 PB4/ADDR12 (io), 30 PB3/ADDR11 (io), 31 PB2/ADDR10 (io), 32 PB1/ADDR9 (io), 33 PB0/ADDR8 (io), 34 MODB/VSTBY (in), 35 MODA/~{LIR} (io), 36 E (out), 37 EXTAL, 38 XTAL, 39 EVSS (power), 40 VSS (power), 41 PC0/ADDR0 (io), 42 PC1/ADDR1 (io), 43 PC2/ADDR2 (io), 44 PC3/ADDR3 (io)

## MC68HC11D0CFB3
designator U?
8-Bit Microcontroller; Published: 17-Jan-2003; LatestRevisionDate: 13-Apr-2006; LatestRevisionNote: IPC-7351 Footprint Added.; DatasheetVersion: 10-Jan-1995; PackageVersion: rev5, Apr-2002; PackageReference: 824A-01; Publisher: Altium Limited; PackageDescription: 44-Pin Quad Flat Pack 0.8 mm Pitch; Code_JEDEC: MS-022-AB; Code_IPC: QFP80P1320X1320-44; ComponentLink1Description: Manufacturer Link; ComponentLink1URL: http://www.freescale.com/; ComponentLink2Description: Datasheet; ComponentLink2URL: http://www.freescale.com/files/microcontrollers/doc/data_sheet/MC68HC11D3.pdf
footprint 824A-01_N (QFP, 44-Leads, Body 10x10mm, Pitch 0.8mm, IPC Medium Density)
footprint 824A-01_L (QFP, 44-Leads, Body 10x10mm, Pitch 0.8mm, IPC High Density)
footprint 824A-01_M (QFP, 44-Leads, Body 10x10mm, Pitch 0.8mm, IPC Low Density)
3D model MC68HC11-824A-01 (44-Pin Quad Flat Pack 0.8 mm Pitch)
pins: 1 PC4/ADDR4 (io), 2 PC5/ADDR5 (io), 3 PC6/ADDR6 (io), 4 PC7/ADDR7 (io), 5 ~{XIRQ}/VPP (in), 6 PD7/R/~{W} (io), 7 PD6/AS (io), 8 ~{RESET} (io), 9 ~{IRQ} (in), 10 PD0/RXD (io), 11 PD1/TXD (io), 12 PD2/MISO (io), 13 PD3/MOSI (io), 14 PD4/SCK (io), 15 PD5/~{SS} (io), 16 VDD (power), 17 PA7/PAI/OC1 (io), 18 PA6/OC2/OC1 (out), 19 PA5/OC3/OC1 (out), 20 PA4/OC4/OC1 (out), 21 PA3/IC4/OC5/OC1 (io), 22 PA2/IC1 (in), 23 PA1/IC2 (in), 24 PA0/IC3 (in), 25 NC, 26 PB7/ADDR15 (io), 27 PB6/ADDR14 (io), 28 PB5/ADDR13 (io), 29 PB4/ADDR12 (io), 30 PB3/ADDR11 (io), 31 PB2/ADDR10 (io), 32 PB1/ADDR9 (io), 33 PB0/ADDR8 (io), 34 MODB/VSTBY (in), 35 MODA/~{LIR} (io), 36 E (out), 37 EXTAL, 38 XTAL, 39 EVSS (power), 40 VSS (power), 41 PC0/ADDR0 (io), 42 PC1/ADDR1 (io), 43 PC2/ADDR2 (io), 44 PC3/ADDR3 (io)

## MC68HC11D0CFN
designator U?
8-Bit Microcontroller; Published: 17-Jan-2003; LatestRevisionDate: 13-Apr-2006; LatestRevisionNote: IPC-7351 Footprint Added.; DatasheetVersion: 10-Jan-1995; PackageVersion: rev3, Feb-2002; PackageReference: 777-02; Publisher: Altium Limited; PackageDescription: 44-Pin Plastic Leaded Chip Carrier 1.27 mm Pitch; ComponentLink1Description: Manufacturer Link; ComponentLink1URL: http://www.freescale.com/; ComponentLink2Description: Datasheet; ComponentLink2URL: http://www.freescale.com/files/microcontrollers/doc/data_sheet/MC68HC11D3.pdf
footprint 777-02_N (Leaded Chip Carrier, 44-Leads, Body 16.6x16.6mm, Pitch 1.27mm, IPC Medium Density)
footprint 777-02_L (Leaded Chip Carrier, 44-Leads, Body 16.6x16.6mm, Pitch 1.27mm, IPC High Density)
footprint 777-02_M (Leaded Chip Carrier, 44-Leads, Body 16.6x16.6mm, Pitch 1.27mm, IPC Low Density)
3D model MC68HC11-777-02 (44-Pin Plastic Leaded Chip Carrier 1.27 mm Pitch)
pins: 1 EVSS (power), 2 VSS (power), 3 PC0/ADDR0 (io), 4 PC1/ADDR1 (io), 5 PC2/ADDR2 (io), 6 PC3/ADDR3 (io), 7 PC4/ADDR4 (io), 8 PC5/ADDR5 (io), 9 PC6/ADDR6 (io), 10 PC7/ADDR7 (io), 11 ~{XIRQ}/VPP (in), 12 PD7/R/~{W} (io), 13 PD6/AS (io), 14 ~{RESET} (io), 15 ~{IRQ} (in), 16 PD0/RXD (io), 17 PD1/TXD (io), 18 PD2/MISO (io), 19 PD3/MOSI (io), 20 PD4/SCK (io), 21 PD5/~{SS} (io), 22 VDD (power), 23 PA7/PAI/OC1 (io), 24 PA6/OC2/OC1 (out), 25 PA5/OC3/OC1 (out), 26 PA4/OC4/OC1 (out), 27 PA3/IC4/OC5/OC1 (io), 28 PA2/IC1 (in), 29 PA1/IC2 (in), 30 PA0/IC3 (in), 31 NC, 32 PB7/ADDR15 (io), 33 PB6/ADDR14 (io), 34 PB5/ADDR13 (io), 35 PB4/ADDR12 (io), 36 PB3/ADDR11 (io), 37 PB2/ADDR10 (io), 38 PB1/ADDR9 (io), 39 PB0/ADDR8 (io), 40 MODB/VSTBY (in), 41 MODA/~{LIR} (io), 42 E (out), 43 EXTAL, 44 XTAL

## MC68HC11D0CFN3
designator U?
8-Bit Microcontroller; Published: 17-Jan-2003; LatestRevisionDate: 13-Apr-2006; LatestRevisionNote: IPC-7351 Footprint Added.; DatasheetVersion: 10-Jan-1995; PackageVersion: rev3, Feb-2002; PackageReference: 777-02; Publisher: Altium Limited; PackageDescription: 44-Pin Plastic Leaded Chip Carrier 1.27 mm Pitch; ComponentLink1Description: Manufacturer Link; ComponentLink1URL: http://www.freescale.com/; ComponentLink2Description: Datasheet; ComponentLink2URL: http://www.freescale.com/files/microcontrollers/doc/data_sheet/MC68HC11D3.pdf
footprint 777-02_N (Leaded Chip Carrier, 44-Leads, Body 16.6x16.6mm, Pitch 1.27mm, IPC Medium Density)
footprint 777-02_L (Leaded Chip Carrier, 44-Leads, Body 16.6x16.6mm, Pitch 1.27mm, IPC High Density)
footprint 777-02_M (Leaded Chip Carrier, 44-Leads, Body 16.6x16.6mm, Pitch 1.27mm, IPC Low Density)
3D model MC68HC11-777-02 (44-Pin Plastic Leaded Chip Carrier 1.27 mm Pitch)
pins: 1 EVSS (power), 2 VSS (power), 3 PC0/ADDR0 (io), 4 PC1/ADDR1 (io), 5 PC2/ADDR2 (io), 6 PC3/ADDR3 (io), 7 PC4/ADDR4 (io), 8 PC5/ADDR5 (io), 9 PC6/ADDR6 (io), 10 PC7/ADDR7 (io), 11 ~{XIRQ}/VPP (in), 12 PD7/R/~{W} (io), 13 PD6/AS (io), 14 ~{RESET} (io), 15 ~{IRQ} (in), 16 PD0/RXD (io), 17 PD1/TXD (io), 18 PD2/MISO (io), 19 PD3/MOSI (io), 20 PD4/SCK (io), 21 PD5/~{SS} (io), 22 VDD (power), 23 PA7/PAI/OC1 (io), 24 PA6/OC2/OC1 (out), 25 PA5/OC3/OC1 (out), 26 PA4/OC4/OC1 (out), 27 PA3/IC4/OC5/OC1 (io), 28 PA2/IC1 (in), 29 PA1/IC2 (in), 30 PA0/IC3 (in), 31 NC, 32 PB7/ADDR15 (io), 33 PB6/ADDR14 (io), 34 PB5/ADDR13 (io), 35 PB4/ADDR12 (io), 36 PB3/ADDR11 (io), 37 PB2/ADDR10 (io), 38 PB1/ADDR9 (io), 39 PB0/ADDR8 (io), 40 MODB/VSTBY (in), 41 MODA/~{LIR} (io), 42 E (out), 43 EXTAL, 44 XTAL

## MC68HC11D0CP
designator U?
8-Bit Microcontroller; Published: 17-Jan-2003; LatestRevisionDate: 06-Jun-2005; LatestRevisionNote: Stylized 3D Model Added.; DatasheetVersion: 10-Jan-1995; PackageReference: 711-03; Publisher: Altium Limited; PackageDescription: DIP; 40 Leads; Row Spacing 15.24 mm; Pitch 2.54 mm; ComponentLink1Description: Manufacturer Link; ComponentLink1URL: http://www.freescale.com/; ComponentLink2Description: Datasheet; ComponentLink2URL: http://www.freescale.com/files/microcontrollers/doc/data_sheet/MC68HC11D3.pdf
footprint 711-03 (DIP; 40 Leads; Row Spacing 15.24 mm; Pitch 2.54 mm)
3D model 711-03 (DIP; 40 Leads; Row Spacing 15.24 mm; Pitch 2.54 mm)
pins: 1 VSS (power), 2 PC0/ADDR0 (io), 3 PC1/ADDR1 (io), 4 PC2/ADDR2 (io), 5 PC3/ADDR3 (io), 6 PC4/ADDR4 (io), 7 PC5/ADDR5 (io), 8 PC6/ADDR6 (io), 9 PC7/ADDR7 (io), 10 ~{XIRQ}/VPP (in), 11 PD7/R/~{W} (io), 12 PD6/AS (io), 13 ~{RESET} (io), 14 ~{IRQ} (in), 15 PD0/RXD (io), 16 PD1/TXD (io), 17 PD2/MISO (io), 18 PD3/MOSI (io), 19 PD4/SCK (io), 20 PD5/~{SS} (io), 21 VDD (power), 22 PA7/PAI/OC1 (io), 23 PA5/OC3/OC1 (out), 24 PA3/IC4/OC5/OC1 (io), 25 PA2/IC1 (in), 26 PA1/IC2 (in), 27 PA0/IC3 (in), 28 PB7/ADDR15 (io), 29 PB6/ADDR14 (io), 30 PB5/ADDR13 (io), 31 PB4/ADDR12 (io), 32 PB3/ADDR11 (io), 33 PB2/ADDR10 (io), 34 PB1/ADDR9 (io), 35 PB0/ADDR8 (io), 36 MODB/VSTBY (in), 37 MODA/~{LIR} (io), 38 E (out), 39 EXTAL, 40 XTAL

## MC68HC11D0CP3
designator U?
8-Bit Microcontroller; Published: 17-Jan-2003; LatestRevisionDate: 06-Jun-2005; LatestRevisionNote: Stylized 3D Model Added.; DatasheetVersion: 10-Jan-1995; PackageReference: 711-03; Publisher: Altium Limited; PackageDescription: DIP; 40 Leads; Row Spacing 15.24 mm; Pitch 2.54 mm; ComponentLink1Description: Manufacturer Link; ComponentLink1URL: http://www.freescale.com/; ComponentLink2Description: Datasheet; ComponentLink2URL: http://www.freescale.com/files/microcontrollers/doc/data_sheet/MC68HC11D3.pdf
footprint 711-03 (DIP; 40 Leads; Row Spacing 15.24 mm; Pitch 2.54 mm)
3D model 711-03 (DIP; 40 Leads; Row Spacing 15.24 mm; Pitch 2.54 mm)
pins: 1 VSS (power), 2 PC0/ADDR0 (io), 3 PC1/ADDR1 (io), 4 PC2/ADDR2 (io), 5 PC3/ADDR3 (io), 6 PC4/ADDR4 (io), 7 PC5/ADDR5 (io), 8 PC6/ADDR6 (io), 9 PC7/ADDR7 (io), 10 ~{XIRQ}/VPP (in), 11 PD7/R/~{W} (io), 12 PD6/AS (io), 13 ~{RESET} (io), 14 ~{IRQ} (in), 15 PD0/RXD (io), 16 PD1/TXD (io), 17 PD2/MISO (io), 18 PD3/MOSI (io), 19 PD4/SCK (io), 20 PD5/~{SS} (io), 21 VDD (power), 22 PA7/PAI/OC1 (io), 23 PA5/OC3/OC1 (out), 24 PA3/IC4/OC5/OC1 (io), 25 PA2/IC1 (in), 26 PA1/IC2 (in), 27 PA0/IC3 (in), 28 PB7/ADDR15 (io), 29 PB6/ADDR14 (io), 30 PB5/ADDR13 (io), 31 PB4/ADDR12 (io), 32 PB3/ADDR11 (io), 33 PB2/ADDR10 (io), 34 PB1/ADDR9 (io), 35 PB0/ADDR8 (io), 36 MODB/VSTBY (in), 37 MODA/~{LIR} (io), 38 E (out), 39 EXTAL, 40 XTAL

## MC68HC11D0MFB3
designator U?
8-Bit Microcontroller; Published: 17-Jan-2003; LatestRevisionDate: 13-Apr-2006; LatestRevisionNote: IPC-7351 Footprint Added.; DatasheetVersion: 10-Jan-1995; PackageVersion: rev5, Apr-2002; PackageReference: 824A-01; Publisher: Altium Limited; PackageDescription: 44-Pin Quad Flat Pack 0.8 mm Pitch; Code_JEDEC: MS-022-AB; Code_IPC: QFP80P1320X1320-44; ComponentLink1Description: Manufacturer Link; ComponentLink1URL: http://www.freescale.com/; ComponentLink2Description: Datasheet; ComponentLink2URL: http://www.freescale.com/files/microcontrollers/doc/data_sheet/MC68HC11D3.pdf
footprint 824A-01_N (QFP, 44-Leads, Body 10x10mm, Pitch 0.8mm, IPC Medium Density)
footprint 824A-01_L (QFP, 44-Leads, Body 10x10mm, Pitch 0.8mm, IPC High Density)
footprint 824A-01_M (QFP, 44-Leads, Body 10x10mm, Pitch 0.8mm, IPC Low Density)
3D model MC68HC11-824A-01 (44-Pin Quad Flat Pack 0.8 mm Pitch)
pins: 1 PC4/ADDR4 (io), 2 PC5/ADDR5 (io), 3 PC6/ADDR6 (io), 4 PC7/ADDR7 (io), 5 ~{XIRQ}/VPP (in), 6 PD7/R/~{W} (io), 7 PD6/AS (io), 8 ~{RESET} (io), 9 ~{IRQ} (in), 10 PD0/RXD (io), 11 PD1/TXD (io), 12 PD2/MISO (io), 13 PD3/MOSI (io), 14 PD4/SCK (io), 15 PD5/~{SS} (io), 16 VDD (power), 17 PA7/PAI/OC1 (io), 18 PA6/OC2/OC1 (out), 19 PA5/OC3/OC1 (out), 20 PA4/OC4/OC1 (out), 21 PA3/IC4/OC5/OC1 (io), 22 PA2/IC1 (in), 23 PA1/IC2 (in), 24 PA0/IC3 (in), 25 NC, 26 PB7/ADDR15 (io), 27 PB6/ADDR14 (io), 28 PB5/ADDR13 (io), 29 PB4/ADDR12 (io), 30 PB3/ADDR11 (io), 31 PB2/ADDR10 (io), 32 PB1/ADDR9 (io), 33 PB0/ADDR8 (io), 34 MODB/VSTBY (in), 35 MODA/~{LIR} (io), 36 E (out), 37 EXTAL, 38 XTAL, 39 EVSS (power), 40 VSS (power), 41 PC0/ADDR0 (io), 42 PC1/ADDR1 (io), 43 PC2/ADDR2 (io), 44 PC3/ADDR3 (io)

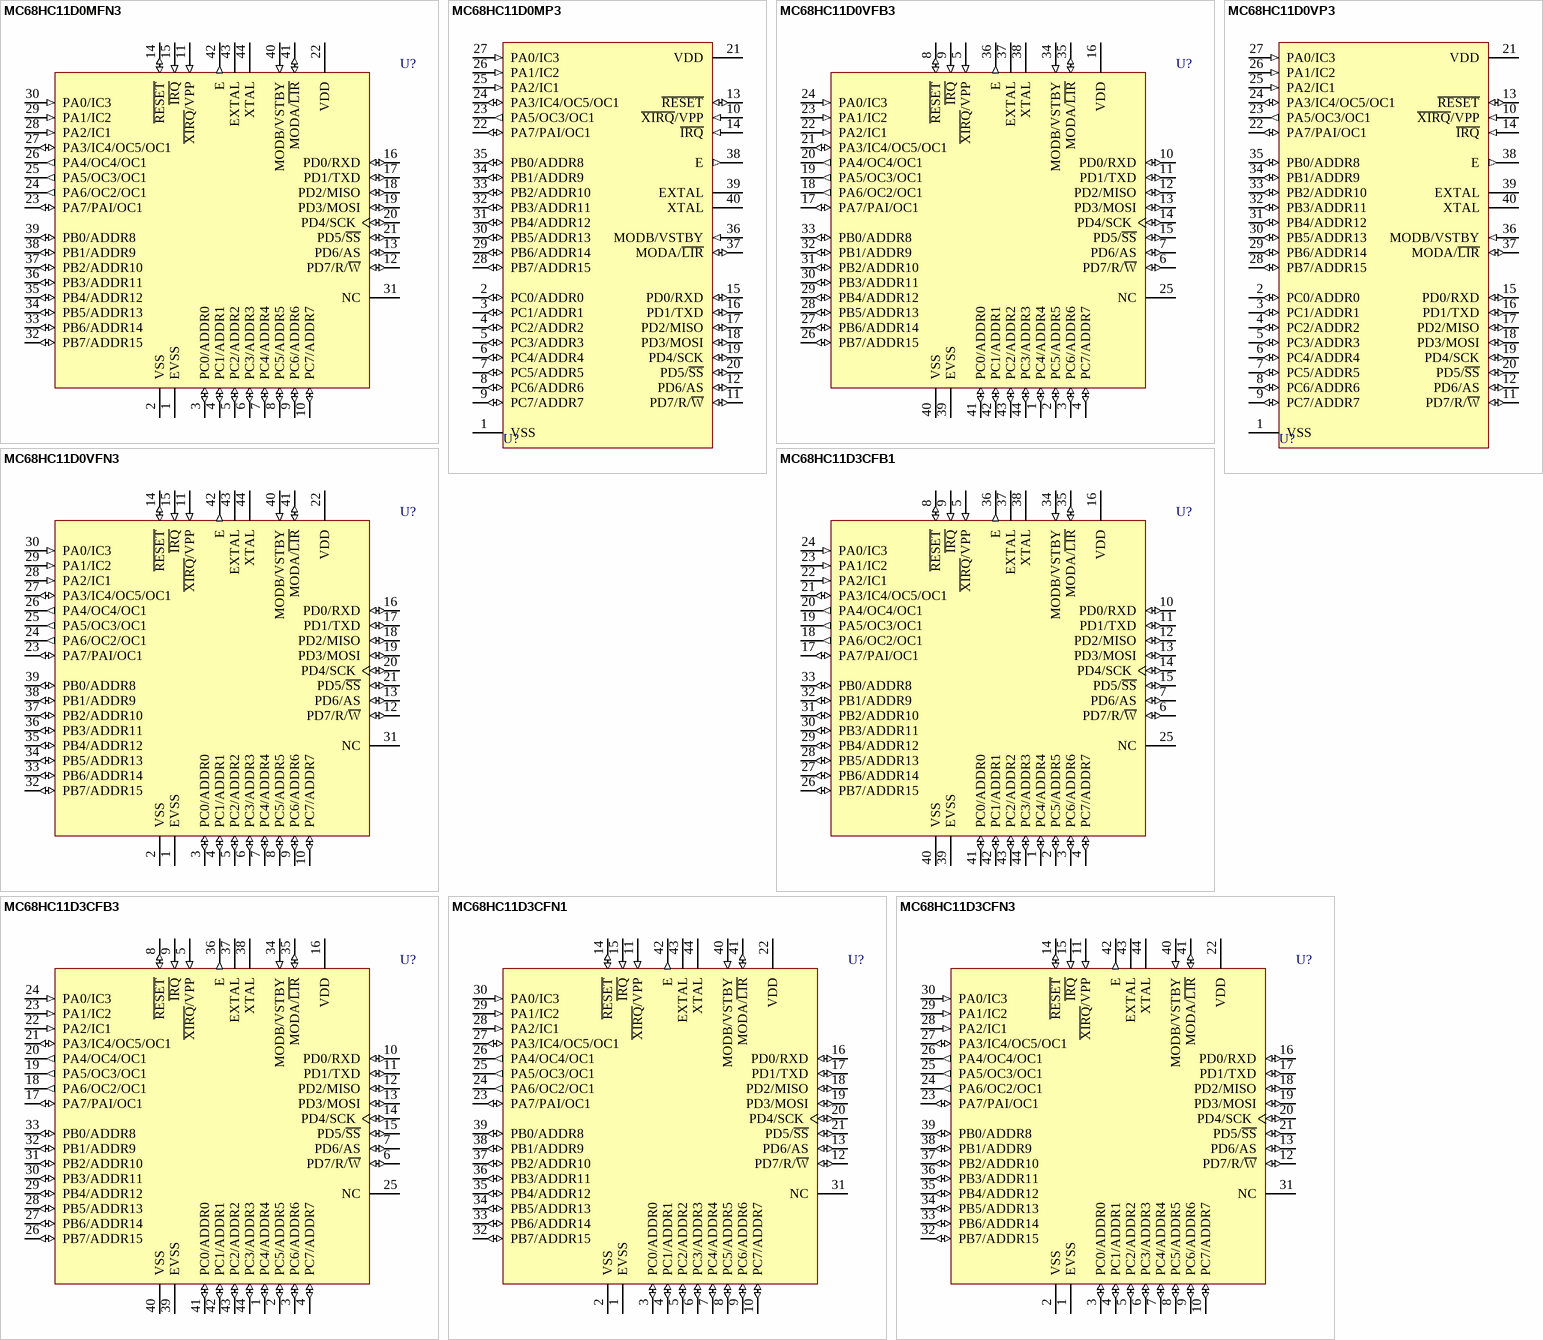
[diagram p19: symbols MC68HC11D0MFN3 to MC68HC11D3CFN3]

## MC68HC11D0MFN3
designator U?
8-Bit Microcontroller; Published: 17-Jan-2003; LatestRevisionDate: 13-Apr-2006; LatestRevisionNote: IPC-7351 Footprint Added.; DatasheetVersion: 10-Jan-1995; PackageVersion: rev3, Feb-2002; PackageReference: 777-02; Publisher: Altium Limited; PackageDescription: 44-Pin Plastic Leaded Chip Carrier 1.27 mm Pitch; ComponentLink1Description: Manufacturer Link; ComponentLink1URL: http://www.freescale.com/; ComponentLink2Description: Datasheet; ComponentLink2URL: http://www.freescale.com/files/microcontrollers/doc/data_sheet/MC68HC11D3.pdf
footprint 777-02_N (Leaded Chip Carrier, 44-Leads, Body 16.6x16.6mm, Pitch 1.27mm, IPC Medium Density)
footprint 777-02_L (Leaded Chip Carrier, 44-Leads, Body 16.6x16.6mm, Pitch 1.27mm, IPC High Density)
footprint 777-02_M (Leaded Chip Carrier, 44-Leads, Body 16.6x16.6mm, Pitch 1.27mm, IPC Low Density)
3D model MC68HC11-777-02 (44-Pin Plastic Leaded Chip Carrier 1.27 mm Pitch)
pins: 1 EVSS (power), 2 VSS (power), 3 PC0/ADDR0 (io), 4 PC1/ADDR1 (io), 5 PC2/ADDR2 (io), 6 PC3/ADDR3 (io), 7 PC4/ADDR4 (io), 8 PC5/ADDR5 (io), 9 PC6/ADDR6 (io), 10 PC7/ADDR7 (io), 11 ~{XIRQ}/VPP (in), 12 PD7/R/~{W} (io), 13 PD6/AS (io), 14 ~{RESET} (io), 15 ~{IRQ} (in), 16 PD0/RXD (io), 17 PD1/TXD (io), 18 PD2/MISO (io), 19 PD3/MOSI (io), 20 PD4/SCK (io), 21 PD5/~{SS} (io), 22 VDD (power), 23 PA7/PAI/OC1 (io), 24 PA6/OC2/OC1 (out), 25 PA5/OC3/OC1 (out), 26 PA4/OC4/OC1 (out), 27 PA3/IC4/OC5/OC1 (io), 28 PA2/IC1 (in), 29 PA1/IC2 (in), 30 PA0/IC3 (in), 31 NC, 32 PB7/ADDR15 (io), 33 PB6/ADDR14 (io), 34 PB5/ADDR13 (io), 35 PB4/ADDR12 (io), 36 PB3/ADDR11 (io), 37 PB2/ADDR10 (io), 38 PB1/ADDR9 (io), 39 PB0/ADDR8 (io), 40 MODB/VSTBY (in), 41 MODA/~{LIR} (io), 42 E (out), 43 EXTAL, 44 XTAL

## MC68HC11D0MP3
designator U?
8-Bit Microcontroller; Published: 17-Jan-2003; LatestRevisionDate: 06-Jun-2005; LatestRevisionNote: Stylized 3D Model Added.; DatasheetVersion: 10-Jan-1995; PackageReference: 711-03; Publisher: Altium Limited; PackageDescription: DIP; 40 Leads; Row Spacing 15.24 mm; Pitch 2.54 mm; ComponentLink1Description: Manufacturer Link; ComponentLink1URL: http://www.freescale.com/; ComponentLink2Description: Datasheet; ComponentLink2URL: http://www.freescale.com/files/microcontrollers/doc/data_sheet/MC68HC11D3.pdf
footprint 711-03 (DIP; 40 Leads; Row Spacing 15.24 mm; Pitch 2.54 mm)
3D model 711-03 (DIP; 40 Leads; Row Spacing 15.24 mm; Pitch 2.54 mm)
pins: 1 VSS (power), 2 PC0/ADDR0 (io), 3 PC1/ADDR1 (io), 4 PC2/ADDR2 (io), 5 PC3/ADDR3 (io), 6 PC4/ADDR4 (io), 7 PC5/ADDR5 (io), 8 PC6/ADDR6 (io), 9 PC7/ADDR7 (io), 10 ~{XIRQ}/VPP (in), 11 PD7/R/~{W} (io), 12 PD6/AS (io), 13 ~{RESET} (io), 14 ~{IRQ} (in), 15 PD0/RXD (io), 16 PD1/TXD (io), 17 PD2/MISO (io), 18 PD3/MOSI (io), 19 PD4/SCK (io), 20 PD5/~{SS} (io), 21 VDD (power), 22 PA7/PAI/OC1 (io), 23 PA5/OC3/OC1 (out), 24 PA3/IC4/OC5/OC1 (io), 25 PA2/IC1 (in), 26 PA1/IC2 (in), 27 PA0/IC3 (in), 28 PB7/ADDR15 (io), 29 PB6/ADDR14 (io), 30 PB5/ADDR13 (io), 31 PB4/ADDR12 (io), 32 PB3/ADDR11 (io), 33 PB2/ADDR10 (io), 34 PB1/ADDR9 (io), 35 PB0/ADDR8 (io), 36 MODB/VSTBY (in), 37 MODA/~{LIR} (io), 38 E (out), 39 EXTAL, 40 XTAL

## MC68HC11D0VFB3
designator U?
8-Bit Microcontroller; Published: 17-Jan-2003; LatestRevisionDate: 13-Apr-2006; LatestRevisionNote: IPC-7351 Footprint Added.; DatasheetVersion: 10-Jan-1995; PackageVersion: rev5, Apr-2002; PackageReference: 824A-01; Publisher: Altium Limited; PackageDescription: 44-Pin Quad Flat Pack 0.8 mm Pitch; Code_JEDEC: MS-022-AB; Code_IPC: QFP80P1320X1320-44; ComponentLink1Description: Manufacturer Link; ComponentLink1URL: http://www.freescale.com/; ComponentLink2Description: Datasheet; ComponentLink2URL: http://www.freescale.com/files/microcontrollers/doc/data_sheet/MC68HC11D3.pdf
footprint 824A-01_N (QFP, 44-Leads, Body 10x10mm, Pitch 0.8mm, IPC Medium Density)
footprint 824A-01_L (QFP, 44-Leads, Body 10x10mm, Pitch 0.8mm, IPC High Density)
footprint 824A-01_M (QFP, 44-Leads, Body 10x10mm, Pitch 0.8mm, IPC Low Density)
3D model MC68HC11-824A-01 (44-Pin Quad Flat Pack 0.8 mm Pitch)
pins: 1 PC4/ADDR4 (io), 2 PC5/ADDR5 (io), 3 PC6/ADDR6 (io), 4 PC7/ADDR7 (io), 5 ~{XIRQ}/VPP (in), 6 PD7/R/~{W} (io), 7 PD6/AS (io), 8 ~{RESET} (io), 9 ~{IRQ} (in), 10 PD0/RXD (io), 11 PD1/TXD (io), 12 PD2/MISO (io), 13 PD3/MOSI (io), 14 PD4/SCK (io), 15 PD5/~{SS} (io), 16 VDD (power), 17 PA7/PAI/OC1 (io), 18 PA6/OC2/OC1 (out), 19 PA5/OC3/OC1 (out), 20 PA4/OC4/OC1 (out), 21 PA3/IC4/OC5/OC1 (io), 22 PA2/IC1 (in), 23 PA1/IC2 (in), 24 PA0/IC3 (in), 25 NC, 26 PB7/ADDR15 (io), 27 PB6/ADDR14 (io), 28 PB5/ADDR13 (io), 29 PB4/ADDR12 (io), 30 PB3/ADDR11 (io), 31 PB2/ADDR10 (io), 32 PB1/ADDR9 (io), 33 PB0/ADDR8 (io), 34 MODB/VSTBY (in), 35 MODA/~{LIR} (io), 36 E (out), 37 EXTAL, 38 XTAL, 39 EVSS (power), 40 VSS (power), 41 PC0/ADDR0 (io), 42 PC1/ADDR1 (io), 43 PC2/ADDR2 (io), 44 PC3/ADDR3 (io)

## MC68HC11D0VFN3
designator U?
8-Bit Microcontroller; Published: 17-Jan-2003; LatestRevisionDate: 13-Apr-2006; LatestRevisionNote: IPC-7351 Footprint Added.; DatasheetVersion: 10-Jan-1995; PackageVersion: rev3, Feb-2002; PackageReference: 777-02; Publisher: Altium Limited; PackageDescription: 44-Pin Plastic Leaded Chip Carrier 1.27 mm Pitch; ComponentLink1Description: Manufacturer Link; ComponentLink1URL: http://www.freescale.com/; ComponentLink2Description: Datasheet; ComponentLink2URL: http://www.freescale.com/files/microcontrollers/doc/data_sheet/MC68HC11D3.pdf
footprint 777-02_N (Leaded Chip Carrier, 44-Leads, Body 16.6x16.6mm, Pitch 1.27mm, IPC Medium Density)
footprint 777-02_L (Leaded Chip Carrier, 44-Leads, Body 16.6x16.6mm, Pitch 1.27mm, IPC High Density)
footprint 777-02_M (Leaded Chip Carrier, 44-Leads, Body 16.6x16.6mm, Pitch 1.27mm, IPC Low Density)
3D model MC68HC11-777-02 (44-Pin Plastic Leaded Chip Carrier 1.27 mm Pitch)
pins: 1 EVSS (power), 2 VSS (power), 3 PC0/ADDR0 (io), 4 PC1/ADDR1 (io), 5 PC2/ADDR2 (io), 6 PC3/ADDR3 (io), 7 PC4/ADDR4 (io), 8 PC5/ADDR5 (io), 9 PC6/ADDR6 (io), 10 PC7/ADDR7 (io), 11 ~{XIRQ}/VPP (in), 12 PD7/R/~{W} (io), 13 PD6/AS (io), 14 ~{RESET} (io), 15 ~{IRQ} (in), 16 PD0/RXD (io), 17 PD1/TXD (io), 18 PD2/MISO (io), 19 PD3/MOSI (io), 20 PD4/SCK (io), 21 PD5/~{SS} (io), 22 VDD (power), 23 PA7/PAI/OC1 (io), 24 PA6/OC2/OC1 (out), 25 PA5/OC3/OC1 (out), 26 PA4/OC4/OC1 (out), 27 PA3/IC4/OC5/OC1 (io), 28 PA2/IC1 (in), 29 PA1/IC2 (in), 30 PA0/IC3 (in), 31 NC, 32 PB7/ADDR15 (io), 33 PB6/ADDR14 (io), 34 PB5/ADDR13 (io), 35 PB4/ADDR12 (io), 36 PB3/ADDR11 (io), 37 PB2/ADDR10 (io), 38 PB1/ADDR9 (io), 39 PB0/ADDR8 (io), 40 MODB/VSTBY (in), 41 MODA/~{LIR} (io), 42 E (out), 43 EXTAL, 44 XTAL

## MC68HC11D0VP3
designator U?
8-Bit Microcontroller; Published: 17-Jan-2003; LatestRevisionDate: 06-Jun-2005; LatestRevisionNote: Stylized 3D Model Added.; DatasheetVersion: 10-Jan-1995; PackageReference: 711-03; Publisher: Altium Limited; PackageDescription: DIP; 40 Leads; Row Spacing 15.24 mm; Pitch 2.54 mm; ComponentLink1Description: Manufacturer Link; ComponentLink1URL: http://www.freescale.com/; ComponentLink2Description: Datasheet; ComponentLink2URL: http://www.freescale.com/files/microcontrollers/doc/data_sheet/MC68HC11D3.pdf
footprint 711-03 (DIP; 40 Leads; Row Spacing 15.24 mm; Pitch 2.54 mm)
3D model 711-03 (DIP; 40 Leads; Row Spacing 15.24 mm; Pitch 2.54 mm)
pins: 1 VSS (power), 2 PC0/ADDR0 (io), 3 PC1/ADDR1 (io), 4 PC2/ADDR2 (io), 5 PC3/ADDR3 (io), 6 PC4/ADDR4 (io), 7 PC5/ADDR5 (io), 8 PC6/ADDR6 (io), 9 PC7/ADDR7 (io), 10 ~{XIRQ}/VPP (in), 11 PD7/R/~{W} (io), 12 PD6/AS (io), 13 ~{RESET} (io), 14 ~{IRQ} (in), 15 PD0/RXD (io), 16 PD1/TXD (io), 17 PD2/MISO (io), 18 PD3/MOSI (io), 19 PD4/SCK (io), 20 PD5/~{SS} (io), 21 VDD (power), 22 PA7/PAI/OC1 (io), 23 PA5/OC3/OC1 (out), 24 PA3/IC4/OC5/OC1 (io), 25 PA2/IC1 (in), 26 PA1/IC2 (in), 27 PA0/IC3 (in), 28 PB7/ADDR15 (io), 29 PB6/ADDR14 (io), 30 PB5/ADDR13 (io), 31 PB4/ADDR12 (io), 32 PB3/ADDR11 (io), 33 PB2/ADDR10 (io), 34 PB1/ADDR9 (io), 35 PB0/ADDR8 (io), 36 MODB/VSTBY (in), 37 MODA/~{LIR} (io), 38 E (out), 39 EXTAL, 40 XTAL

## MC68HC11D3CFB1
designator U?
8-Bit Microcontroller; Published: 17-Jan-2003; LatestRevisionDate: 13-Apr-2006; LatestRevisionNote: IPC-7351 Footprint Added.; DatasheetVersion: 10-Jan-1995; PackageVersion: rev5, Apr-2002; PackageReference: 824A-01; Publisher: Altium Limited; PackageDescription: 44-Pin Quad Flat Pack 0.8 mm Pitch; Code_JEDEC: MS-022-AB; Code_IPC: QFP80P1320X1320-44; ComponentLink1Description: Manufacturer Link; ComponentLink1URL: http://www.freescale.com/; ComponentLink2Description: Datasheet; ComponentLink2URL: http://www.freescale.com/files/microcontrollers/doc/data_sheet/MC68HC11D3.pdf
footprint 824A-01_N (QFP, 44-Leads, Body 10x10mm, Pitch 0.8mm, IPC Medium Density)
footprint 824A-01_L (QFP, 44-Leads, Body 10x10mm, Pitch 0.8mm, IPC High Density)
footprint 824A-01_M (QFP, 44-Leads, Body 10x10mm, Pitch 0.8mm, IPC Low Density)
3D model MC68HC11-824A-01 (44-Pin Quad Flat Pack 0.8 mm Pitch)
pins: 1 PC4/ADDR4 (io), 2 PC5/ADDR5 (io), 3 PC6/ADDR6 (io), 4 PC7/ADDR7 (io), 5 ~{XIRQ}/VPP (in), 6 PD7/R/~{W} (io), 7 PD6/AS (io), 8 ~{RESET} (io), 9 ~{IRQ} (in), 10 PD0/RXD (io), 11 PD1/TXD (io), 12 PD2/MISO (io), 13 PD3/MOSI (io), 14 PD4/SCK (io), 15 PD5/~{SS} (io), 16 VDD (power), 17 PA7/PAI/OC1 (io), 18 PA6/OC2/OC1 (out), 19 PA5/OC3/OC1 (out), 20 PA4/OC4/OC1 (out), 21 PA3/IC4/OC5/OC1 (io), 22 PA2/IC1 (in), 23 PA1/IC2 (in), 24 PA0/IC3 (in), 25 NC, 26 PB7/ADDR15 (io), 27 PB6/ADDR14 (io), 28 PB5/ADDR13 (io), 29 PB4/ADDR12 (io), 30 PB3/ADDR11 (io), 31 PB2/ADDR10 (io), 32 PB1/ADDR9 (io), 33 PB0/ADDR8 (io), 34 MODB/VSTBY (in), 35 MODA/~{LIR} (io), 36 E (out), 37 EXTAL, 38 XTAL, 39 EVSS (power), 40 VSS (power), 41 PC0/ADDR0 (io), 42 PC1/ADDR1 (io), 43 PC2/ADDR2 (io), 44 PC3/ADDR3 (io)

## MC68HC11D3CFB3
designator U?
8-Bit Microcontroller; Published: 17-Jan-2003; LatestRevisionDate: 13-Apr-2006; LatestRevisionNote: IPC-7351 Footprint Added.; DatasheetVersion: 10-Jan-1995; PackageVersion: rev5, Apr-2002; PackageReference: 824A-01; Publisher: Altium Limited; PackageDescription: 44-Pin Quad Flat Pack 0.8 mm Pitch; Code_JEDEC: MS-022-AB; Code_IPC: QFP80P1320X1320-44; ComponentLink1Description: Manufacturer Link; ComponentLink1URL: http://www.freescale.com/; ComponentLink2Description: Datasheet; ComponentLink2URL: http://www.freescale.com/files/microcontrollers/doc/data_sheet/MC68HC11D3.pdf
footprint 824A-01_N (QFP, 44-Leads, Body 10x10mm, Pitch 0.8mm, IPC Medium Density)
footprint 824A-01_L (QFP, 44-Leads, Body 10x10mm, Pitch 0.8mm, IPC High Density)
footprint 824A-01_M (QFP, 44-Leads, Body 10x10mm, Pitch 0.8mm, IPC Low Density)
3D model MC68HC11-824A-01 (44-Pin Quad Flat Pack 0.8 mm Pitch)
pins: 1 PC4/ADDR4 (io), 2 PC5/ADDR5 (io), 3 PC6/ADDR6 (io), 4 PC7/ADDR7 (io), 5 ~{XIRQ}/VPP (in), 6 PD7/R/~{W} (io), 7 PD6/AS (io), 8 ~{RESET} (io), 9 ~{IRQ} (in), 10 PD0/RXD (io), 11 PD1/TXD (io), 12 PD2/MISO (io), 13 PD3/MOSI (io), 14 PD4/SCK (io), 15 PD5/~{SS} (io), 16 VDD (power), 17 PA7/PAI/OC1 (io), 18 PA6/OC2/OC1 (out), 19 PA5/OC3/OC1 (out), 20 PA4/OC4/OC1 (out), 21 PA3/IC4/OC5/OC1 (io), 22 PA2/IC1 (in), 23 PA1/IC2 (in), 24 PA0/IC3 (in), 25 NC, 26 PB7/ADDR15 (io), 27 PB6/ADDR14 (io), 28 PB5/ADDR13 (io), 29 PB4/ADDR12 (io), 30 PB3/ADDR11 (io), 31 PB2/ADDR10 (io), 32 PB1/ADDR9 (io), 33 PB0/ADDR8 (io), 34 MODB/VSTBY (in), 35 MODA/~{LIR} (io), 36 E (out), 37 EXTAL, 38 XTAL, 39 EVSS (power), 40 VSS (power), 41 PC0/ADDR0 (io), 42 PC1/ADDR1 (io), 43 PC2/ADDR2 (io), 44 PC3/ADDR3 (io)

## MC68HC11D3CFN1
designator U?
8-Bit Microcontroller; Published: 17-Jan-2003; LatestRevisionDate: 13-Apr-2006; LatestRevisionNote: IPC-7351 Footprint Added.; DatasheetVersion: 10-Jan-1995; PackageVersion: rev3, Feb-2002; PackageReference: 777-02; Publisher: Altium Limited; PackageDescription: 44-Pin Plastic Leaded Chip Carrier 1.27 mm Pitch; ComponentLink1Description: Manufacturer Link; ComponentLink1URL: http://www.freescale.com/; ComponentLink2Description: Datasheet; ComponentLink2URL: http://www.freescale.com/files/microcontrollers/doc/data_sheet/MC68HC11D3.pdf
footprint 777-02_N (Leaded Chip Carrier, 44-Leads, Body 16.6x16.6mm, Pitch 1.27mm, IPC Medium Density)
footprint 777-02_L (Leaded Chip Carrier, 44-Leads, Body 16.6x16.6mm, Pitch 1.27mm, IPC High Density)
footprint 777-02_M (Leaded Chip Carrier, 44-Leads, Body 16.6x16.6mm, Pitch 1.27mm, IPC Low Density)
3D model MC68HC11-777-02 (44-Pin Plastic Leaded Chip Carrier 1.27 mm Pitch)
pins: 1 EVSS (power), 2 VSS (power), 3 PC0/ADDR0 (io), 4 PC1/ADDR1 (io), 5 PC2/ADDR2 (io), 6 PC3/ADDR3 (io), 7 PC4/ADDR4 (io), 8 PC5/ADDR5 (io), 9 PC6/ADDR6 (io), 10 PC7/ADDR7 (io), 11 ~{XIRQ}/VPP (in), 12 PD7/R/~{W} (io), 13 PD6/AS (io), 14 ~{RESET} (io), 15 ~{IRQ} (in), 16 PD0/RXD (io), 17 PD1/TXD (io), 18 PD2/MISO (io), 19 PD3/MOSI (io), 20 PD4/SCK (io), 21 PD5/~{SS} (io), 22 VDD (power), 23 PA7/PAI/OC1 (io), 24 PA6/OC2/OC1 (out), 25 PA5/OC3/OC1 (out), 26 PA4/OC4/OC1 (out), 27 PA3/IC4/OC5/OC1 (io), 28 PA2/IC1 (in), 29 PA1/IC2 (in), 30 PA0/IC3 (in), 31 NC, 32 PB7/ADDR15 (io), 33 PB6/ADDR14 (io), 34 PB5/ADDR13 (io), 35 PB4/ADDR12 (io), 36 PB3/ADDR11 (io), 37 PB2/ADDR10 (io), 38 PB1/ADDR9 (io), 39 PB0/ADDR8 (io), 40 MODB/VSTBY (in), 41 MODA/~{LIR} (io), 42 E (out), 43 EXTAL, 44 XTAL